# Altium integrated library Linear Technology Power Management Switching Regulator LTC1174-LTC3901.IntLib: 2647 symbols (part 359 of 364)
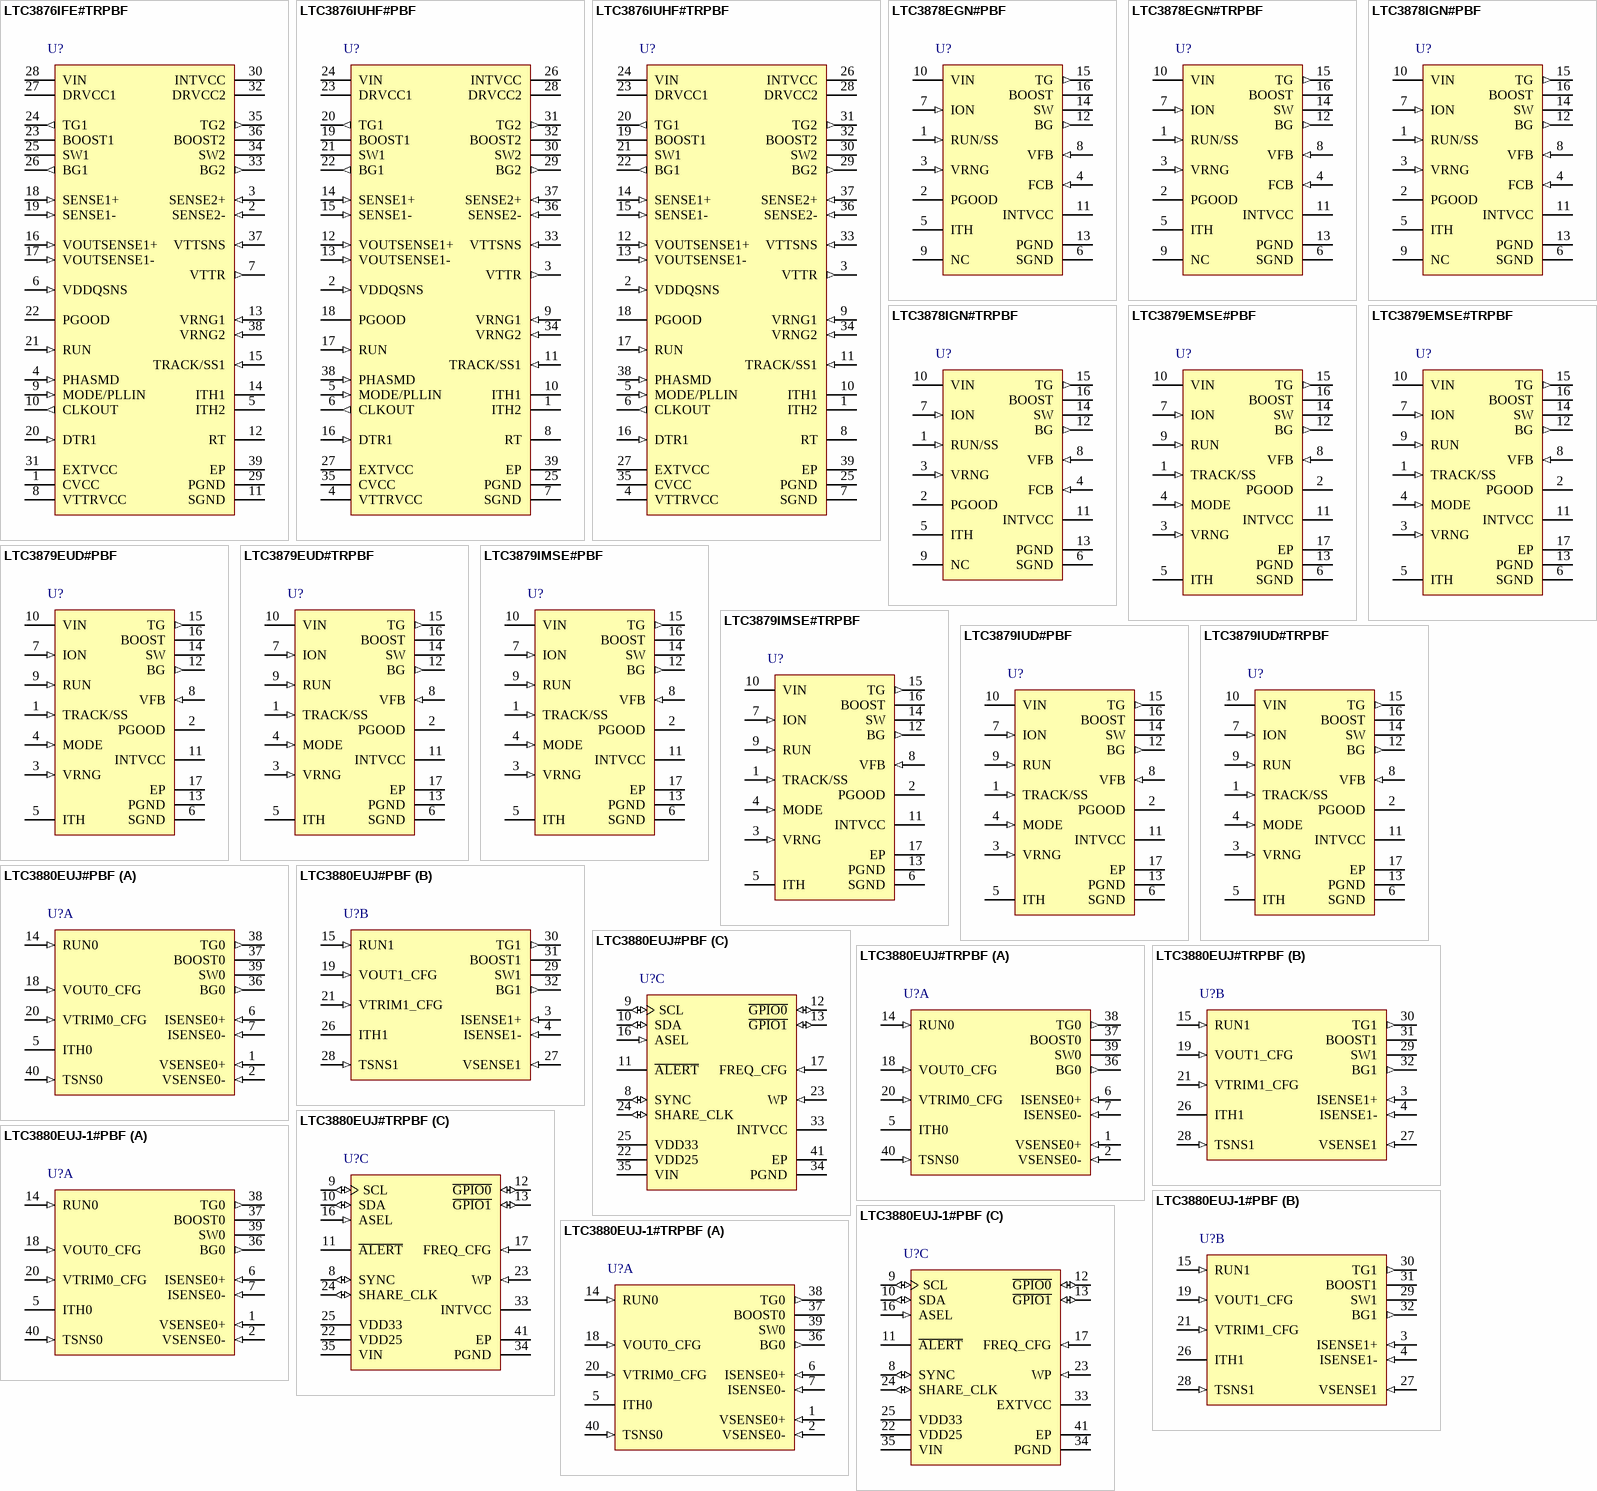
[diagram p402: symbols LTC3876IFE#TRPBF to LTC3880EUJ-1#TRPBF]

## LTC3879EUD#TRPBF
designator U?
Fast, Wide Operating Range No Rsense Step-Down Controller, 16-pin QFN (UD-16-EPV-AA), -40 to 85 degC, Pb-Free, Tape and Reel; Manufacturer: Linear Technology; PartNumber: LTC3879EUD#TRPBF; Number of Outputs: 1; PackageVersion: Rev. A, 06/2010; PackageReference: UD-16; PackageDescription: 16-Pin Plastic QFN, Body 3 x 3 mm, Pitch 0.5 mm; Supplier 1: Digi-Key; Supplier Part Number 1: LTC3879EUD#TRPBF-ND; Packing: Tape and Reel; RoHS: TRUE; Mounting Technology: Surface Mount; Code_JEDEC: MO-220; ComponentLink1Description: Manufacturer URL; ComponentLink1URL: http://www.linear.com/; ComponentLink2Description: Datasheet; ComponentLink2URL: http://cds.linear.com/docs/en/datasheet/3879f.pdf; ComponentLink3Description: Package Specification; ComponentLink3URL: http://cds.linear.com/docs/en/packaging/QFN_16_05-08-1700.pdf
footprint LT-UD-16-EPV-AA_N (QFN, 16-Leads, Body 3.1x3.1mm, Pitch 0.5mm, Thermal Pad 1.65x1.65mm, IPC Medium Density)
footprint LT-UD-16-EPV-AA_L (QFN, 16-Leads, Body 3.1x3.1mm, Pitch 0.5mm, Thermal Pad 1.65x1.65mm, IPC High Density)
footprint LT-UD-16-EPV-AA_M (QFN, 16-Leads, Body 3.1x3.1mm, Pitch 0.5mm, Thermal Pad 1.65x1.65mm, IPC Low Density)
pins: 1 TRACK/SS (in) "External Tracking and Soft-Start Input. The LTC3879 regulates VFB to the smaller of 0.6V or the voltage on the TRACK/SS pin. An internal 1uA pull-up current source is connected to this pin. A capacitor to ground at this pin (See Datasheet)", 2 PGOOD (oc) "Power Good Output. This open-drain logic output is pulled to ground when the output voltage is outside of a +/-10% window around the regulation point.", 3 VRNG (in) "VDS Sense Voltage Range Input. The maximum allowed bottom MOSFET VDS sense voltage between SW and PGND is equal to (0.133)VRNG. The voltage applied to VRNG can be any value between 0.2V and 2V. If VRNG is tied to SGND, the (See Datasheet)", 4 MODE (in) "MODE Input. Connect this pin to INTVCC to enable discontinuous mode for light load operation. Connect this pin to SGND to force continuous mode operation in all conditions.", 5 ITH "Current Control Threshold and Error Amplifier Compensation Point. The current comparator threshold increases with this control voltage. The voltage ranges from 0V to 2.4V, with 0.8V corresponding to zero sense voltage (zero (See Datasheet)", 6 SGND (power) "Signal Ground. All small-signal components should be connected to SGND. Connect SGND to PGND using a single PCB trace.", 7 ION (in) "On-Time Current Input. Tie a resistor from VIN to this pin to set the one-shot timer current and thus the switching frequency.", 8 VFB (in) "Error Amplifier Feedback Input. This pin connects the error amplifier to an external resistive divider from VOUT.", 9 RUN (in) "Run Control Input. RUN below 1.5V disables switching by forcing TG and BG low. RUN less than 1.5V but greater than 0.7V enables all internal bias including the INTVCC output. RUN below 0.7V shuts down all bias and places the (See Datasheet)", 10 VIN (power) "Main Input Supply. The supply voltage can range from 4V to 38V. For increased noise immunity decouple this pin to PGND with an RC filter.", 11 INTVCC (power) "Internal 5.3V Regulator Output. The driver and control circuits are powered from this voltage. Decouple this pin to PGND with a minimum of 1uF, 10V X5R or X7R ceramic capacitor.", 12 BG (out) "Bottom Gate Drive. This pin drives the gate of the bottom N-Channel power MOSFET between PGND and INTVCC.", 13 PGND (power) "Power Ground. Connect this pin as close as practical to the source of the bottom N-channel power MOSFET, the (-) terminal of CINTVCC and the (-) terminal of CVIN.", 14 SW "Switch Node. The (-) terminal of the bootstrap capacitor, CB, connects to this node. This pin swings from a diode voltage below ground up to VIN.", 15 TG (out) "Top Gate Drive. This pin drives the gate of the top N-channel power MOSFET between SW and BOOST.", 16 BOOST "Boosted Floating Driver Supply. The (+) terminal of the bootstrap capacitor, CB, connects to this node. This node swings from (INTVCC - VSCHOTTKY) to VIN + (INTVCC - VSCHOTTKY).", 17 EP (power) "The Exposed Pad is SGND and must be soldered to the PCB."

## LTC3879IMSE#PBF
designator U?
Fast, Wide Operating Range No Rsense Step-Down Controller, 16-pin SOP (MSE-16-EDP), -40 to 85 degC, Pb-Free; Manufacturer: Linear Technology; PartNumber: LTC3879IMSE#PBF; Number of Outputs: 1; PackageVersion: Rev. F, 05/2013; PackageReference: MSE-16; PackageDescription: 16-Pin Plastic MSOP, Exposed Die Pad, Body 4.039 x 3 mm, Pitch 0.5 mm; Supplier 1: Digi-Key; Supplier Part Number 1: LTC3879IMSE#PBF-ND; Supplier 2: Newark; Supplier Part Number 2: 71P8103; RoHS: TRUE; Mounting Technology: Surface Mount; ComponentLink1Description: Manufacturer URL; ComponentLink1URL: http://www.linear.com/; ComponentLink2Description: Datasheet; ComponentLink2URL: http://cds.linear.com/docs/en/datasheet/3879f.pdf; ComponentLink3Description: Package Specification; ComponentLink3URL: http://cds.linear.com/docs/en/packaging/05081667_F_MSE16.pdf
footprint LT-MSE-16-EDP_N (SOP, 16-Leads, Body 4.1x3.1mm, Pitch 0.5mm, Thermal Pad 2.95x1.76mm, IPC Medium Density)
footprint LT-MSE-16-EDP_L (SOP, 16-Leads, Body 4.1x3.1mm, Pitch 0.5mm, Thermal Pad 2.95x1.76mm, IPC High Density)
footprint LT-MSE-16-EDP_M (SOP, 16-Leads, Body 4.1x3.1mm, Pitch 0.5mm, Thermal Pad 2.95x1.76mm, IPC Low Density)
pins: 1 TRACK/SS (in) "External Tracking and Soft-Start Input. The LTC3879 regulates VFB to the smaller of 0.6V or the voltage on the TRACK/SS pin. An internal 1uA pull-up current source is connected to this pin. A capacitor to ground at this pin (See Datasheet)", 2 PGOOD (oc) "Power Good Output. This open-drain logic output is pulled to ground when the output voltage is outside of a +/-10% window around the regulation point.", 3 VRNG (in) "VDS Sense Voltage Range Input. The maximum allowed bottom MOSFET VDS sense voltage between SW and PGND is equal to (0.133)VRNG. The voltage applied to VRNG can be any value between 0.2V and 2V. If VRNG is tied to SGND, the (See Datasheet)", 4 MODE (in) "MODE Input. Connect this pin to INTVCC to enable discontinuous mode for light load operation. Connect this pin to SGND to force continuous mode operation in all conditions.", 5 ITH "Current Control Threshold and Error Amplifier Compensation Point. The current comparator threshold increases with this control voltage. The voltage ranges from 0V to 2.4V, with 0.8V corresponding to zero sense voltage (zero (See Datasheet)", 6 SGND (power) "Signal Ground. All small-signal components should be connected to SGND. Connect SGND to PGND using a single PCB trace.", 7 ION (in) "On-Time Current Input. Tie a resistor from VIN to this pin to set the one-shot timer current and thus the switching frequency.", 8 VFB (in) "Error Amplifier Feedback Input. This pin connects the error amplifier to an external resistive divider from VOUT.", 9 RUN (in) "Run Control Input. RUN below 1.5V disables switching by forcing TG and BG low. RUN less than 1.5V but greater than 0.7V enables all internal bias including the INTVCC output. RUN below 0.7V shuts down all bias and places the (See Datasheet)", 10 VIN (power) "Main Input Supply. The supply voltage can range from 4V to 38V. For increased noise immunity decouple this pin to PGND with an RC filter.", 11 INTVCC (power) "Internal 5.3V Regulator Output. The driver and control circuits are powered from this voltage. Decouple this pin to PGND with a minimum of 1uF, 10V X5R or X7R ceramic capacitor.", 12 BG (out) "Bottom Gate Drive. This pin drives the gate of the bottom N-Channel power MOSFET between PGND and INTVCC.", 13 PGND (power) "Power Ground. Connect this pin as close as practical to the source of the bottom N-channel power MOSFET, the (-) terminal of CINTVCC and the (-) terminal of CVIN.", 14 SW "Switch Node. The (-) terminal of the bootstrap capacitor, CB, connects to this node. This pin swings from a diode voltage below ground up to VIN.", 15 TG (out) "Top Gate Drive. This pin drives the gate of the top N-channel power MOSFET between SW and BOOST.", 16 BOOST "Boosted Floating Driver Supply. The (+) terminal of the bootstrap capacitor, CB, connects to this node. This node swings from (INTVCC - VSCHOTTKY) to VIN + (INTVCC - VSCHOTTKY).", 17 EP (power) "The Exposed Pad is SGND and must be soldered to the PCB."